# Altium footprint library PMIC.PcbLib: 52 footprints (part 2 of 4)
Each footprint in its own frame and in the unit in brackets; x right, y up, seen from the top. Pads: shape width x height; smd on the part's side, far side on the other; paste and mask are expansions set on the pad; w line width, h text height; cw(c..) or ccw(c..) is an arc to the next point about the centre after c.
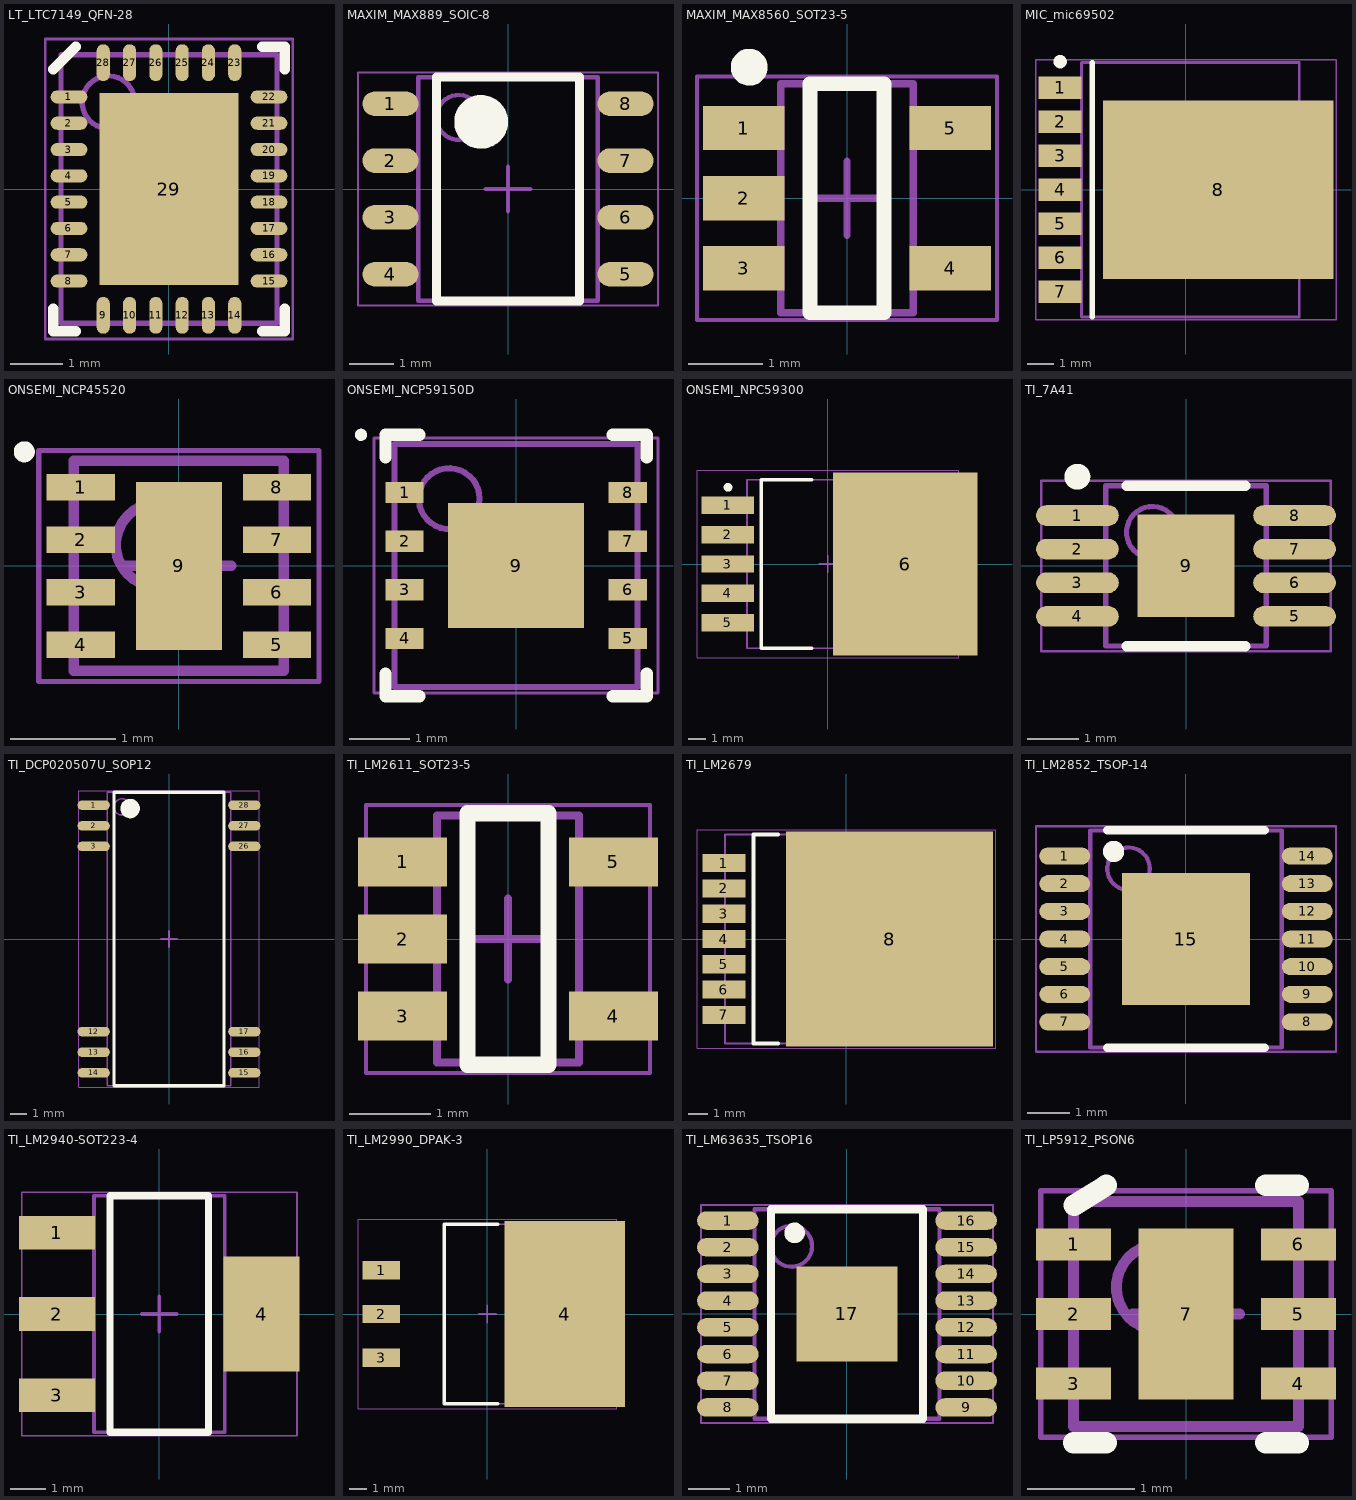
[diagram p1: the footprints below, top view; thin cyan lines are the x and y axes]

## LT_LTC7149_QFN-28 [mm] "QFN, 28-Leads, Body 4.00x5.00mm, Pitch 0.50mm, Thermal Pad 2.65x3.65mm, IPC High Density"
height 0.8
pads (29):
  oval 0.7x0.25 smd mask+0.05: 1(-1.9,1.75) 2(-1.9,1.25) 3(-1.9,0.75) 4(-1.9,0.25) 5(-1.9,-0.25) 6(-1.9,-0.75) 7(-1.9,-1.25) 8(-1.9,-1.75) 15(1.9,-1.75) 16(1.9,-1.25) 17(1.9,-0.75) 18(1.9,-0.25) 19(1.9,0.25) 20(1.9,0.75) 21(1.9,1.25) 22(1.9,1.75)
  oval 0.25x0.7 smd mask+0.05: 9(-1.25,-2.4) 10(-0.75,-2.4) 11(-0.25,-2.4) 12(0.25,-2.4) 13(0.75,-2.4) 14(1.25,-2.4) 23(1.25,2.4) 24(0.75,2.4) 25(0.25,2.4) 26(-0.25,2.4) 27(-0.75,2.4) 28(-1.25,2.4)
  rect 2.65x3.65 smd mask+0.05: 29(0,0)
Top Overlay:
  lines w0.2: -2.2,-2.275 -2.2,-2.7 -1.775,-2.7 ; -2.2,2.275 -1.775,2.7 ; 1.775,-2.7 2.2,-2.7 2.2,-2.275 ; 1.775,2.7 2.2,2.7 2.2,2.275
Mechanical 13:
  circle w0.1: c-1.15,1.65 r0.5
  lines w0.1: -2.05,-2.55 -2.05,2.55 2.05,2.55 2.05,-2.55 -2.05,-2.55
Mechanical 15:
  lines w0.05: -2.35,-2.85 -2.35,2.85 2.35,2.85 2.35,-2.85 -2.35,-2.85
  lines w0.1: -0.5,0 0.5,0 ; 0,-0.5 0,0.5
3D body "LT_LTC7149_QFN-28.step": height 0.8, standoff 0, extent -2.051,-2.551 2.051,2.551

## MAXIM_MAX889_SOIC-8 [mm] "SOP, 8-Leads, Body 4.90x3.90mm, Pitch 1.27mm, IPC High Density"
height 1.75
pads (8):
  oval 1.25x0.55 smd: 1(-2.625,1.905) 2(-2.625,0.635) 3(-2.625,-0.635) 4(-2.625,-1.905) 5(2.625,-1.905) 6(2.625,-0.635) 7(2.625,0.635) 8(2.625,1.905)
Top Overlay:
  circle w0.6: c-0.6,1.5 r0.3
  lines w0.2: -1.6,-2.5 -1.6,2.5 1.6,2.5 1.6,-2.5 -1.6,-2.5
Mechanical 13:
  circle w0.1: c-1.1,1.6 r0.5
  lines w0.1: -2,-2.5 -2,2.5 2,2.5 2,-2.5 -2,-2.5
Mechanical 15:
  lines w0.05: -3.35,-2.6 -3.35,2.6 3.35,2.6 3.35,-2.6 -3.35,-2.6
  lines w0.1: -0.5,0 0.5,0 ; 0,-0.5 0,0.5
3D body "MAXIM_MAX889_SOIC-8.step": height 1.75, standoff 0, extent -3,-2.5 3,2.5

## MAXIM_MAX8560_SOT23-5 [mm] "SOT23, 5-Leads, Body 2.90x2.70mm, Pitch 0.95mm, IPC High Density"
height 1.45
pads (5):
  rect 1.1x0.6 smd mask+0.08: 1(-1.4,0.95) 2(-1.4,0) 3(-1.4,-0.95) 4(1.4,-0.95) 5(1.4,0.95)
Top Overlay:
  circle w0.25: c-1.325,1.775 r0.125
  lines w0.2: -0.5,-1.55 -0.5,1.55 0.5,1.55 0.5,-1.55 -0.5,-1.55
Mechanical 13:
  lines w0.1: -0.9,-1.55 0.9,-1.55 0.9,1.55 -0.9,1.55 -0.9,-1.55
Mechanical 15:
  lines w0.05: -2.032,-1.65 2.032,-1.65 2.032,1.65 -2.032,1.65 -2.032,-1.65
  lines w0.1: -0.5,0 0.5,0 ; 0,-0.5 0,0.5
3D body "Microchip_MCP6561_SOT23-5.step": height 1.45, standoff 0, extent -1.7,-1.55 1.7,1.55

## MIC_mic69502 [mm] "D-PAK, 8-Pads, Body 7.17x8.12mm (max), IPC High Density"
height 2.03
pads (8):
  rect 1.6x0.85 smd: 1(-4.7,3.81) 2(-4.7,2.54) 3(-4.7,1.27) 4(-4.7,0) 5(-4.7,-1.27) 6(-4.7,-2.54) 7(-4.7,-3.81)
  rect 8.6x6.65 smd: 8(1.2,0)
Top Overlay:
  circle w0.25: c-4.7,4.785 r0.125
  lines w0.2: -3.5,-4.75 -3.5,4.75
Mechanical 13:
  lines w0.1: -3.9,-4.75 -3.9,4.75 4.23,4.75 4.23,-4.75 -3.9,-4.75
Mechanical 15:
  lines w0.05: -5.6,-4.85 -5.6,4.85 5.6,4.85 5.6,-4.85 -5.6,-4.85
  lines w0.1: -0.5,0 0.5,0 ; 0,-0.5 0,0.5
3D body "MIC_mic69502.step": height 2.06, standoff 0, extent -4.96,-4.75 5.58,4.75

## ONSEMI_NCP45520 [mm] "SON, 8-Leads, Body 2.00x2.00mm, Pitch 0.50mm, Thermal Pad 1.60x0.82mm, IPC High Density"
height 1
pads (9):
  rect 0.65x0.25 smd mask+0.02: 1(-0.935,0.75) 2(-0.935,0.25) 3(-0.935,-0.25) 4(-0.935,-0.75) 5(0.935,-0.75) 6(0.935,-0.25) 7(0.935,0.25) 8(0.935,0.75)
  rect 0.82x1.6 smd mask+0.02: 9(0,0)
Top Overlay:
  circle w0.1: c-1.472,1.087 r0.05
Mechanical 13:
  circle w0.1: c-0.2,0.2 r0.4
  lines w0.1: -1,-1 -1,1 1,1 1,-1 -1,-1
Mechanical 15:
  lines w0.05: -1.335,-1.1 -1.335,1.1 1.335,1.1 1.335,-1.1 -1.335,-1.1
  lines w0.1: -0.5,0 0.5,0 ; 0,-0.5 0,0.5
3D body "ONSEMI_NCP45520.step": height 1, standoff 0, extent -1.001,-1 1.001,1

## ONSEMI_NCP59150D [mm] "SON, 8-Leads, Body 4.00x4.00mm, Pitch 0.80mm, Thermal Pad 2.06x2.24mm, IPC High Density"
height 1
pads (9):
  rect 0.63x0.35 smd: 1(-1.835,1.2) 2(-1.835,0.4) 3(-1.835,-0.4) 4(-1.835,-1.2) 5(1.835,-1.2) 6(1.835,-0.4) 7(1.835,0.4) 8(1.835,1.2)
  rect 2.24x2.06 smd: 9(0,0)
Top Overlay:
  circle w0.1: c-2.55,2.15 r0.05
  lines w0.2: -2.15,-1.775 -2.15,-2.15 -1.59,-2.15 ; -2.15,1.775 -2.15,2.15 -1.59,2.15 ; 1.59,-2.15 2.15,-2.15 2.15,-1.775 ; 1.59,2.15 2.15,2.15 2.15,1.775
Mechanical 13:
  circle w0.1: c-1.1,1.1 r0.5
  lines w0.1: -2,-2 2,-2 2,2 -2,2 -2,-2
Mechanical 15:
  lines w0.05: -2.335,-2.1 2.335,-2.1 2.335,2.1 -2.335,2.1 -2.335,-2.1
  lines w0.1: -0.5,0 0.5,0 ; 0,-0.5 0,0.5
3D body "ONSEMI_NCP59150D.step": height 1, standoff 0, extent -2.001,-2 2.001,2

## ONSEMI_NPC59300 [mm]
height 4.32
pads (6):
  rect 3.05x1.016 smd: 1(-5.8,3.4) 2(-5.8,1.7) 3(-5.8,0) 4(-5.8,-1.7) 5(-5.8,-3.4)
  rect 8.38x10.66 smd: 6(4.5,0)
Top Overlay:
  circle w0.25: c-5.8,4.458 r0.125
  lines w0.2: -0.94,-4.9 -3.875,-4.9 -3.875,4.9 -0.94,4.9
Mechanical 13:
  lines w0.1: -4.7,-4.9 5.54,-4.9 5.54,4.9 -4.7,4.9 -4.7,-4.9
Mechanical 15:
  lines w0.05: -7.6,-5.45 7.6,-5.45 7.6,5.45 -7.6,5.45 -7.6,-5.45
  lines w0.1: -0.5,0 0.5,0 ; 0,-0.5 0,0.5
3D body "ONSEMI_NPC59300.step": height 4.32, standoff 0, extent -6.508,-4.9 7.191,4.9

## TI_7A41 [mm] "TSOP, 8-Leads, Body 3.00x3.00mm, Pitch 0.65mm, Thermal Pad 1.98x1.88mm, IPC High Density"
height 1.1
pads (9):
  oval 1.6x0.4 smd mask+0.07: 1(-2.1,0.975) 2(-2.1,0.325) 3(-2.1,-0.325) 4(-2.1,-0.975) 5(2.1,-0.975) 6(2.1,-0.325) 7(2.1,0.325) 8(2.1,0.975)
  rect 1.88x1.98 smd mask+0.07: 9(0,0)
Top Overlay:
  circle w0.25: c-2.1,1.725 r0.125
  lines w0.2: -1.15,-1.55 1.15,-1.55 ; -1.15,1.55 1.15,1.55
Mechanical 13:
  circle w0.1: c-0.65,0.65 r0.5
  lines w0.1: -1.55,-1.55 -1.55,1.55 1.55,1.55 1.55,-1.55 -1.55,-1.55
Mechanical 15:
  lines w0.05: -2.8,-1.65 -2.8,1.65 2.8,1.65 2.8,-1.65 -2.8,-1.65
  lines w0.1: -0.5,0 0.5,0 ; 0,-0.5 0,0.5
3D body "TI_7A41.step": height 1.1, standoff 0, extent -2.45,-1.55 2.45,1.55

## TI_DCP020507U_SOP12 [mm] "SOP, 28-Leads, Body 17.90x7.50mm, Pitch 1.27mm, IPC High Density"
height 2.65
pads (12):
  oval 2x0.6 smd: 1(-4.65,8.255) 2(-4.65,6.985) 3(-4.65,5.715) 12(-4.65,-5.715) 13(-4.65,-6.985) 14(-4.65,-8.255) 15(4.65,-8.255) 16(4.65,-6.985) 17(4.65,-5.715) 26(4.65,5.715) 27(4.65,6.985) 28(4.65,8.255)
Top Overlay:
  circle w0.6: c-2.4,8.05 r0.3
  lines w0.2: -3.4,-9.05 3.4,-9.05 3.4,9.05 -3.4,9.05 -3.4,-9.05
Mechanical 13:
  circle w0.1: c-2.9,8.15 r0.5
  lines w0.1: -3.8,-9.05 3.8,-9.05 3.8,9.05 -3.8,9.05 -3.8,-9.05
Mechanical 15:
  lines w0.05: -5.575,-9.15 5.575,-9.15 5.575,9.15 -5.575,9.15 -5.575,-9.15
  lines w0.1: -0.5,0 0.5,0 ; 0,-0.5 0,0.5
3D body "TI_DCP020507U_SOP12.step": height 2.65, standoff 0, extent -5.165,-9.05 5.165,9.05

## TI_LM2611_SOT23-5 [mm] "SOT23, 5-Leads, Body 2.90x2.80mm, Pitch 0.95mm, IPC High Density"
height 1.45
pads (5):
  rect 1.1x0.6 smd mask+0.07: 1(-1.3,0.95) 2(-1.3,0) 3(-1.3,-0.95) 4(1.3,-0.95) 5(1.3,0.95)
Top Overlay:
  lines w0.2: -0.5,-1.55 0.5,-1.55 0.5,1.55 -0.5,1.55 -0.5,-1.55
Mechanical 13:
  lines w0.1: -0.875,-1.525 -0.875,1.525 0.875,1.525 0.875,-1.525 -0.875,-1.525
Mechanical 15:
  lines w0.05: -1.75,-1.65 -1.75,1.65 1.75,1.65 1.75,-1.65 -1.75,-1.65
  lines w0.1: -0.5,0 0.5,0 ; 0,-0.5 0,0.5
3D body "TI_LM2611_SOT23-5.step": height 1.45, standoff 0, extent -1.5,-1.525 1.5,1.525

## TI_LM2679 [mm] "D2-PAK, 8-Pads, Body 7.55x8.61mm (max), IPC High Density"
height 4.64
pads (8):
  rect 2.16x0.91 smd: 1(-6.15,3.81) 2(-6.15,2.54) 3(-6.15,1.27) 4(-6.15,0) 5(-6.15,-1.27) 6(-6.15,-2.54) 7(-6.15,-3.81)
  rect 10.41x10.8 smd: 8(2.17,0)
Top Overlay:
  lines w0.2: -3.435,-5.25 -4.67,-5.25 -4.67,5.25 -3.435,5.25
Mechanical 13:
  lines w0.1: -6.1,-5.25 2.8,-5.25 2.8,5.25 -6.1,5.25 -6.1,-5.25
Mechanical 15:
  lines w0.05: -7.5,-5.5 7.5,-5.5 7.5,5.5 -7.5,5.5 -7.5,-5.5
  lines w0.1: -0.5,0 0.5,0 ; 0,-0.5 0,0.5
3D body "TI_LM2679.step": height 4.64, standoff 0, extent -6.979,-5.25 7.371,5.25

## TI_LM2852_TSOP-14 [mm] "TSOP, 14-Leads, Body 5.00x4.40mm, Pitch 0.65mm, Thermal Pad 3.10x3.00mm, IPC High Density"
height 1.1
pads (15):
  oval 1.2x0.4 smd mask+0.04: 1(-2.85,1.95) 2(-2.85,1.3) 3(-2.85,0.65) 4(-2.85,0) 5(-2.85,-0.65) 6(-2.85,-1.3) 7(-2.85,-1.95) 8(2.85,-1.95) 9(2.85,-1.3) 10(2.85,-0.65) 11(2.85,0) 12(2.85,0.65) 13(2.85,1.3) 14(2.85,1.95)
  rect 3x3.1 smd mask+0.04: 15(0,0)
Top Overlay:
  circle w0.25: c-1.702,2.057 r0.125
  lines w0.2: -1.85,-2.55 1.85,-2.55 ; -1.85,2.55 1.85,2.55
Mechanical 13:
  circle w0.1: c-1.35,1.65 r0.5
  lines w0.1: -2.25,-2.55 2.25,-2.55 2.25,2.55 -2.25,2.55 -2.25,-2.55
Mechanical 15:
  lines w0.05: -3.525,-2.65 3.525,-2.65 3.525,2.65 -3.525,2.65 -3.525,-2.65
  lines w0.1: -0.5,0 0.5,0 ; 0,-0.5 0,0.5
3D body "TI_LM2852_TSOP-14.step": height 1.1, standoff 0, extent -3.2,-2.55 3.2,2.55

## TI_LM2940-SOT223-4 [mm] "SOT223, 4-Leads, Body 6.50x7.00mm (avg), Pitch 2.30mm, IPC High Density"
height 1.8
pads (4):
  rect 2.15x0.95 smd: 1(-2.9,2.3) 2(-2.9,0) 3(-2.9,-2.3)
  rect 2.15x3.25 smd: 4(2.9,0)
Top Overlay:
  lines w0.2: -1.4,-3.35 -1.4,3.35 1.4,3.35 1.4,-3.35 -1.4,-3.35
Mechanical 13:
  lines w0.1: -1.85,-3.35 -1.85,3.35 1.85,3.35 1.85,-3.35 -1.85,-3.35
Mechanical 15:
  lines w0.05: -3.9,-3.45 -3.9,3.45 3.9,3.45 3.9,-3.45 -3.9,-3.45
  lines w0.1: -0.5,0 0.5,0 ; 0,-0.5 0,0.5
3D body "TI_LM2940-SOT223-4.step": height 1.8, standoff 0, extent -3.5,-3.35 3.5,3.35

## TI_LM2990_DPAK-3 [mm] "D2-PAK, 4-Pads, Body 7.55x8.56mm (max), IPC High Density"
height 4.65
pads (4):
  rect 2.16x1.07 smd: 1(-6.15,2.54) 2(-6.15,0) 3(-6.15,-2.54)
  rect 6.99x10.8 smd: 4(4.5,0)
Top Overlay:
  lines w0.2: 0.605,-5.2 -2.5,-5.2 -2.5,5.2 0.605,5.2
Mechanical 13:
  lines w0.1: -2.5,-5.2 6.4,-5.2 6.4,5.2 -2.5,5.2 -2.5,-5.2
Mechanical 15:
  lines w0.05: -7.5,-5.5 7.5,-5.5 7.5,5.5 -7.5,5.5 -7.5,-5.5
  lines w0.1: -0.5,0 0.5,0 ; 0,-0.5 0,0.5
3D body "TI_LM2990_DPAK-3.step": height 4.65, standoff 0, extent -6.7,-5.2 7.65,5.2

## TI_LM63635_TSOP16 [mm] "TSOP, 16-Leads, Body 5.00x4.40mm, Pitch 0.65mm, Thermal Pad 2.30x2.46mm, IPC High Density"
height 1.2
pads (17):
  oval 1.5x0.45 smd mask+0.05: 1(-2.9,2.275) 2(-2.9,1.625) 3(-2.9,0.975) 4(-2.9,0.325) 5(-2.9,-0.325) 6(-2.9,-0.975) 7(-2.9,-1.625) 8(-2.9,-2.275) 9(2.9,-2.275) 10(2.9,-1.625) 11(2.9,-0.975) 12(2.9,-0.325) 13(2.9,0.325) 14(2.9,0.975) 15(2.9,1.625) 16(2.9,2.275)
  rect 2.46x2.3 smd mask+0.05: 17(0,0)
Top Overlay:
  circle w0.25: c-1.275,1.975 r0.125
  lines w0.2: -1.85,-2.55 1.85,-2.55 1.85,2.55 -1.85,2.55 -1.85,-2.55
Mechanical 13:
  circle w0.1: c-1.35,1.65 r0.5
  lines w0.1: -2.25,-2.55 2.25,-2.55 2.25,2.55 -2.25,2.55 -2.25,-2.55
Mechanical 15:
  lines w0.05: -3.55,-2.65 3.55,-2.65 3.55,2.65 -3.55,2.65 -3.55,-2.65
  lines w0.1: -0.5,0 0.5,0 ; 0,-0.5 0,0.5
3D body "TI_LM63635_TSOP16.step": height 1.2, standoff 0, extent -3.2,-2.55 3.2,2.55

## TI_LP5912_PSON6 [mm] "SON, 6-Leads, Body 2.00x2.00mm, Pitch 0.65mm, Thermal Pad 1.60x0.89mm, IPC High Density"
height 0.8
pads (7):
  rect 0.7x0.3 smd mask+0.05: 1(-1.05,0.65) 2(-1.05,0) 3(-1.05,-0.65) 4(1.05,-0.65) 5(1.05,0) 6(1.05,0.65)
  rect 0.89x1.6 smd mask+0.05: 7(0,0)
Top Overlay:
  lines w0.2: -1.05,-1.2 -0.745,-1.2 ; -1.041,1.016 -0.745,1.2 ; 0.745,-1.2 1.05,-1.2 ; 0.745,1.2 1.05,1.2
Mechanical 13:
  circle w0.1: c-0.25,0.25 r0.4
  lines w0.1: -1.05,-1.05 -1.05,1.05 1.05,1.05 1.05,-1.05 -1.05,-1.05
Mechanical 15:
  lines w0.05: -1.355,-1.15 -1.355,1.15 1.355,1.15 1.355,-1.15 -1.355,-1.15
  lines w0.1: -0.5,0 0.5,0 ; 0,-0.5 0,0.5
3D body "TI_TPS6126x_PSON6.step": height 0.8, standoff 0, extent -1.051,-1.05 1.051,1.05